# EAGLE library part LT3425EUH (library linear-technology)
Asynchronous 4-phase boost converter with output capable of operation below 1V input.
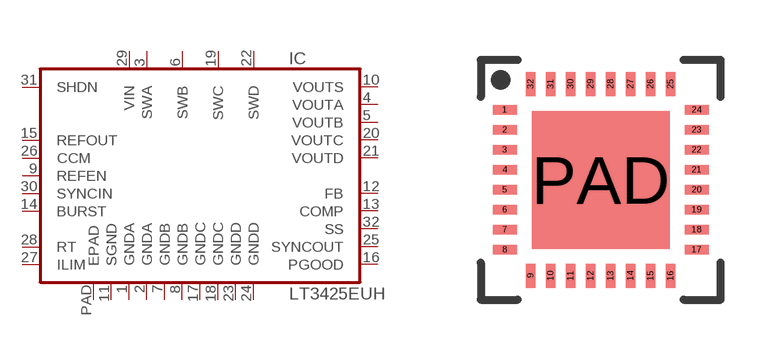
[diagram p5: symbol with the pads of QFN32; footprint QFN32]

Designator prefix IC

## LT3425EUH  [QFN32]
1  GNDA  pwr
2  GNDA  pwr
3  SWA  pas
4  VOUTA  out
5  VOUTB  out
6  SWB  pas
7  GNDB  pwr
8  GNDB  pwr
9  REFEN  pas
10  VOUTS  out
11  SGND  pwr
12  FB  pas
13  COMP  pas
14  BURST  pas
15  REFOUT  sup
16  PGOOD  oc
17  GNDC  pwr
18  GNDC  pwr
19  SWC  pas
20  VOUTC  out
21  VOUTD  out
22  SWD  pas
23  GNDD  pwr
24  GNDD  pwr
25  SYNCOUT  out
26  CCM  pas
27  ILIM  pas
28  RT  pas
29  VIN  pwr
30  SYNCIN  in
31  SHDN  in
32  SS  pas
PAD  EPAD  pwr

## Footprint QFN32 (pad centres in mm)
smd 0.6 x 0.23: 1 -2.4,1.75; 2 -2.4,1.25; 3 -2.4,0.75; 4 -2.4,0.25; 5 -2.4,-0.25; 6 -2.4,-0.75; 7 -2.4,-1.25; 8 -2.4,-1.75; 17 2.4,-1.75; 18 2.4,-1.25; 19 2.4,-0.75; 20 2.4,-0.25; 21 2.4,0.25; 22 2.4,0.75; 23 2.4,1.25; 24 2.4,1.75
smd 0.23 x 0.6: 9 -1.75,-2.4; 10 -1.25,-2.4; 11 -0.75,-2.4; 12 -0.25,-2.4; 13 0.25,-2.4; 14 0.75,-2.4; 15 1.25,-2.4; 16 1.75,-2.4; 25 1.75,2.4; 26 1.25,2.4; 27 0.75,2.4; 28 0.25,2.4; 29 -0.25,2.4; 30 -0.75,2.4; 31 -1.25,2.4; 32 -1.75,2.4
smd 3.45 x 3.45: PAD 0,0